# EAGLE library part MIC37303 (library MIC37303)
The MIC37300/01/02/03 is a 3.0A low-dropout linear voltage regulator that provides a low voltage, high current output with a minimum number of external components. It offers high precision, ultra-low dropout (500 mV over temperature), and low ground current. The MIC37300/01/02/03 operates from an input of 2.25V to 6.0V. It is designed to drive digital circuits requiring low-voltage at high currents (i.e., PLDs, DSP, microcontroller, etc.). It is available in fixed and adjustable output voltages. Fixed voltages include 1.5V, 1.8V, 2.5V, and 3.3V. The adjustable version is capable of 1.24V to 5.5V. Features of the MIC37300/01/02/03 LDO include thermal and current limit protection, and reverse current protection. Logic enable and error flag pins are available on the 5-pin version. Junction temperature range of the MIC37300/01/02/03 is from –40°C to +125°C. For applications requiring input voltage greater than 6.0V, see the MIC3910x, MIC3915x, MIC3930x, and MIC3950x LDOs.
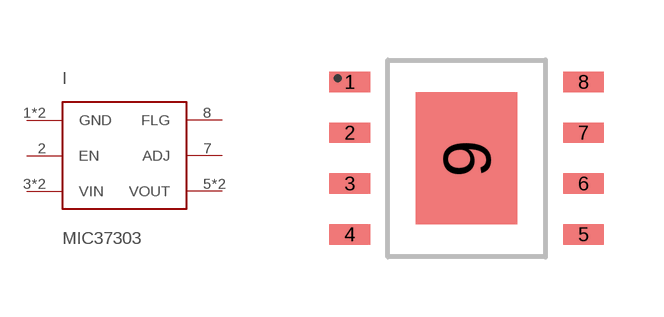
[diagram p0: symbol with the pads of SOIC8; footprint SOIC8]

Designator prefix I

## MIC37303  [SOIC8]
1  GND  pwr
2  EN  in
3  VIN  in
4  VIN  in
5  VOUT  out
6  VOUT  out
7  ADJ  in
8  FLG  out
9  GND  pwr

## Footprint SOIC8 (pad centres in mm)
smd 1.016 x 0.508: 1 -2.9,1.91; 2 -2.9,0.64; 3 -2.9,-0.63; 4 -2.9,-1.9; 5 2.94,-1.9; 6 2.94,-0.63; 7 2.94,0.64; 8 2.94,1.91
smd 2.54 x 3.3: 9 0.02,0